# EAGLE library part TPS7A7200RGTR (library TPS7A7200RGTR)
2A, Single Output, Very Low Input, Configurable Fixed (0.9 to 5.0V) Low-Dropout Linear Regulator Source: Datasheet <http://www.ti.com/lit/gpn/tps7a7200>
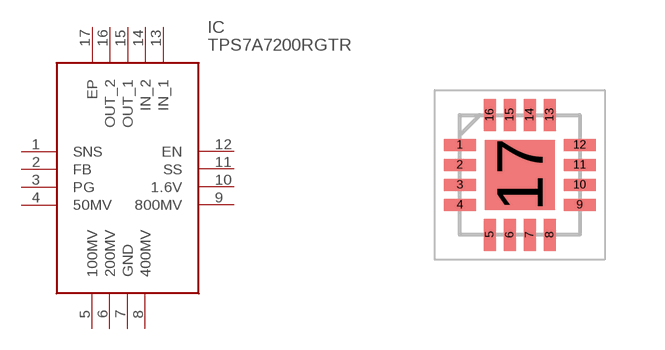
[diagram p0: symbol with the pads of QFN50P300X300X100-17N; footprint QFN50P300X300X100-17N]

Designator prefix IC

## TPS7A7200RGTR (Description: 2A, Single Output, Very Low Input, Configurable Fixed (0.9 to 5.0V) Low-Dropout Linear Regulator; Height: 1mm; Manufacturer_Name: Texas Instruments; Manufacturer_Part_Number: TPS7A7200RGTR; Mouser_Part_Number: 595-TPS7A7200RGTR; Mouser_Price-Stock: https://www.mouser.co.uk/ProductDetail/Texas-Instruments/TPS7A7200RGTR?qs=N%2FGwOzoYEADhZqusv3bivA%3D%3D)  [QFN50P300X300X100-17N]
1  SNS
2  FB
3  PG
4  50MV
5  100MV
6  200MV
7  GND
8  400MV
9  800MV
10  1.6V
11  SS
12  EN
13  IN_1
14  IN_2
15  OUT_1
16  OUT_2
17  EP

## Footprint QFN50P300X300X100-17N (pad centres in mm)
RGT001
smd 0.8 x 0.3: 1 -1.5,0.75; 2 -1.5,0.25; 3 -1.5,-0.25; 4 -1.5,-0.75; 9 1.5,-0.75; 10 1.5,-0.25; 11 1.5,0.25; 12 1.5,0.75
smd 0.3 x 0.8: 5 -0.75,-1.5; 6 -0.25,-1.5; 7 0.25,-1.5; 8 0.75,-1.5; 13 0.75,1.5; 14 0.25,1.5; 15 -0.25,1.5; 16 -0.75,1.5
smd 1.75 x 1.75: 17 0,0